# Altium schematic symbol library dalibor-display.SchLib: 4 symbols
Pins are listed as number, name and electrical type; pins without a type are passive.

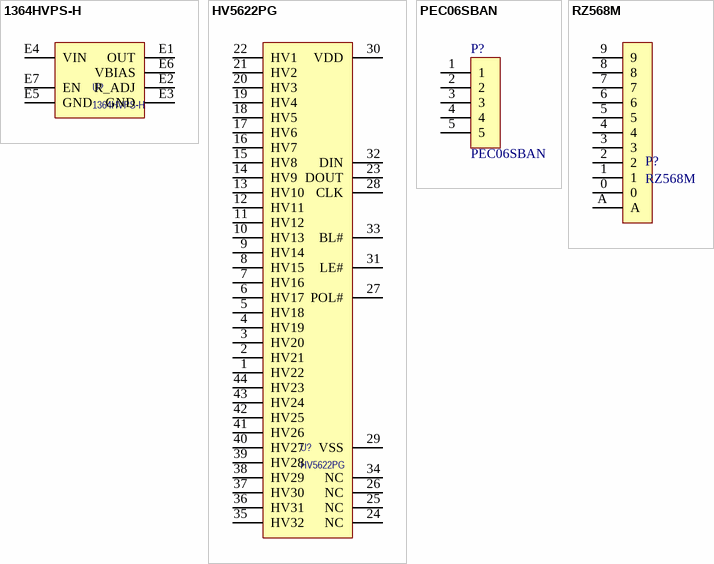
[diagram p0: symbols 1364HVPS-H to RZ568M]

## 1364HVPS-H
designator U?
High Voltage Power Supply; Manufacturer: Taylor Electronics; Manufacturer P/N: 1364HVPS-H
footprint 1364HVPS-H (High Voltage Power Supply)
pins: E1 OUT, E2 R_ADJ, E3 GND, E4 VIN, E5 GND, E6 VBIAS, E7 EN

## HV5622PG
designator U?
32-Channel Serial to Parallel Converter; Manufacturer: Microchip; Manufacturer P/N: HV5622PG
footprint QFP44P80_1390X1390X235L88X37N (Quad Flat Pack (QFP), 0.80 mm pitch; square, 11 pin X 11 pin, 10.00 mm L X 10.00 mm W X 2.35 mm H body)
pins: 1 HV22, 2 HV21, 3 HV20, 4 HV19, 5 HV18, 6 HV17, 7 HV16, 8 HV15, 9 HV14, 10 HV13, 11 HV12, 12 HV11, 13 HV10, 14 HV9, 15 HV8, 16 HV7, 17 HV6, 18 HV5, 19 HV4, 20 HV3, 21 HV2, 22 HV1, 23 DOUT, 24 NC, 25 NC, 26 NC, 27 POL#, 28 CLK, 29 VSS, 30 VDD, 31 LE#, 32 DIN, 33 BL#, 34 NC, 35 HV32, 36 HV31, 37 HV30, 38 HV29, 39 HV28, 40 HV27, 41 HV26, 42 HV25, 43 HV24, 44 HV23

## PEC06SBAN
designator P?
Header, 5-Pin, Right Angle, 0.1" pitch; Manufacturer: Sullins; Manufacturer P/N: PEC06SBAN
footprint HDR1X5 (Connector; Header; 5 Position)
pins: 1, 2, 3, 4, 5

## RZ568M
designator P?
Nixie Tube Socket
footprint RZ568M (Nixie Tube Socket)
pins: 0, 1, 2, 3, 4, 5, 6, 7, 8, 9, A